# EAGLE library part CON-HARTING-ML_ML6 (library main_board)
HARTING
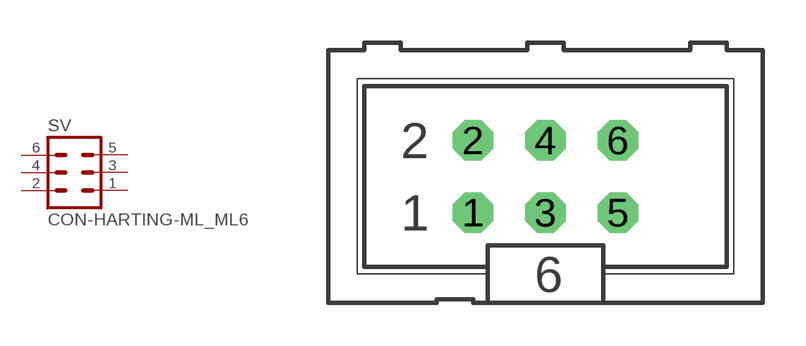
[diagram p3: symbol with the pads of CON-HARTING-ML_ML6; footprint CON-HARTING-ML_ML6]

Designator prefix SV

## CON-HARTING-ML_ML6  [CON-HARTING-ML_ML6]
1  1  pas
2  2  pas
3  3  pas
4  4  pas
5  5  pas
6  6  pas

## Footprint CON-HARTING-ML_ML6 (pad centres in mm)
HARTING
drill 0.914 octagon: 1 -2.54,-1.27; 2 -2.54,1.27; 3 0,-1.27; 4 0,1.27; 5 2.54,-1.27; 6 2.54,1.27